# EAGLE library part AS3993 (library AustriaMicro-U)
RFID READER
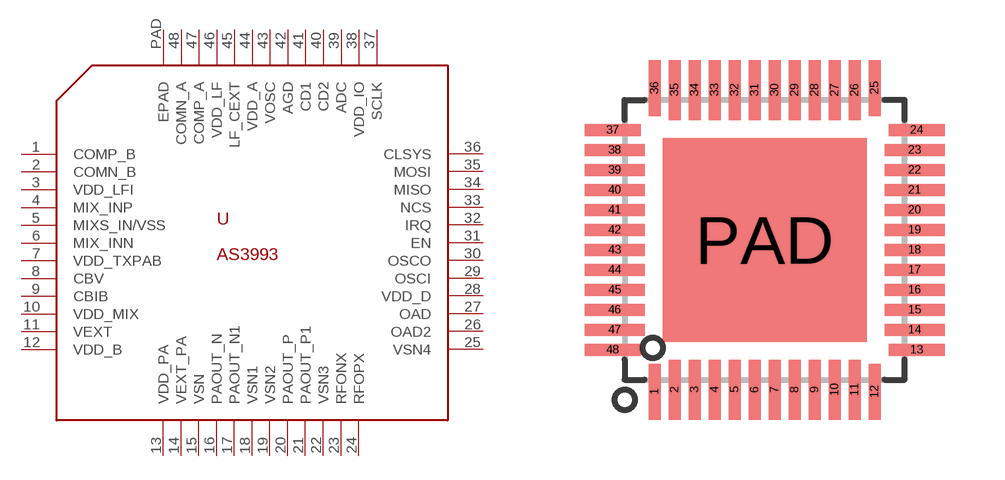
[diagram p0: symbol with the pads of LFCSP_7X7_48; footprint LFCSP_7X7_48]

Designator prefix -

## AS3993-BQFP  [LFCSP_7X7_48]
1  COMP_B
2  COMN_B
3  VDD_LFI
4  MIX_INP
5  MIXS_IN/VSS
6  MIX_INN
7  VDD_TXPAB
8  CBV
9  CBIB
10  VDD_MIX
11  VEXT
12  VDD_B
13  VDD_PA
14  VEXT_PA
15  VSN
16  PAOUT_N
17  PAOUT_N1
18  VSN1
19  VSN2
20  PAOUT_P
21  PAOUT_P1
22  VSN3
23  RFONX
24  RFOPX
25  VSN4
26  OAD2
27  OAD
28  VDD_D
29  OSCI
30  OSCO
31  EN
32  IRQ
33  NCS
34  MISO
35  MOSI
36  CLSYS
37  SCLK
38  VDD_IO
39  ADC
40  CD2
41  CD1
42  AGD
43  VOSC
44  VDD_A
45  LF_CEXT
46  VDD_LF
47  COMP_A
48  COMN_A
PAD  EPAD

## Footprint LFCSP_7X7_48 (pad centres in mm)
Leadless chip scale package 7x7mm, 0.5mm pitch Austria Micro QFN
smd 0.3 x 1.4: 1 -2.75,-3.8; 12 2.75,-3.8; 25 2.75,3.8; 36 -2.75,3.8
smd 0.3 x 1.5: 2 -2.25,-3.75; 3 -1.75,-3.75; 4 -1.25,-3.75; 5 -0.75,-3.75; 6 -0.25,-3.75; 7 0.25,-3.75; 8 0.75,-3.75; 9 1.25,-3.75; 10 1.75,-3.75; 11 2.25,-3.75; 26 2.25,3.75; 27 1.75,3.75; 28 1.25,3.75; 29 0.75,3.75; 30 0.25,3.75; 31 -0.25,3.75; 32 -0.75,3.75; 33 -1.25,3.75; 34 -1.75,3.75; 35 -2.25,3.75
smd 1.4 x 0.3: 13 3.8,-2.75; 24 3.8,2.75; 37 -3.8,2.75; 48 -3.8,-2.75
smd 1.5 x 0.3: 14 3.75,-2.25; 15 3.75,-1.75; 16 3.75,-1.25; 17 3.75,-0.75; 18 3.75,-0.25; 19 3.75,0.25; 20 3.75,0.75; 21 3.75,1.25; 22 3.75,1.75; 23 3.75,2.25; 38 -3.75,2.25; 39 -3.75,1.75; 40 -3.75,1.25; 41 -3.75,0.75; 42 -3.75,0.25; 43 -3.75,-0.25; 44 -3.75,-0.75; 45 -3.75,-1.25; 46 -3.75,-1.75; 47 -3.75,-2.25
smd 5.1 x 5.1: PAD 0,0